# EAGLE library part FT232RQ (library ftdi_ft232rq)
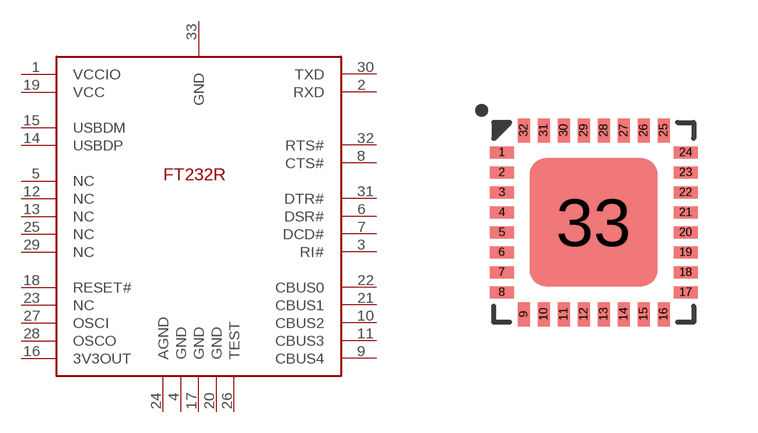
[diagram p0: symbol with the pads of FT232RQ; footprint FT232RQ]

Designator prefix -

## FT232RQ  [FT232RQ]
1  VCCIO  pwr
2  RXD  in
3  RI#  in
4  GND  pwr
5  NC  nc
6  DSR#  in
7  DCD#
8  CTS#  in
9  CBUS4
10  CBUS2
11  CBUS3
12  NC  nc
13  NC  nc
14  USBDP
15  USBDM
16  3V3OUT  out
17  GND  pwr
18  RESET#  in
19  VCC  pwr
20  GND  pwr
21  CBUS1
22  CBUS0
23  NC  nc
24  AGND  pwr
25  NC  nc
26  TEST  in
27  OSCI  in
28  OSCO  out
29  NC  nc
30  TXD  out
31  DTR#  out
32  RTS#  out
33  GND

## Footprint FT232RQ (pad centres in mm)
smd 0.6 x 0.3: 1 -2.3,1.75; 2 -2.3,1.25; 3 -2.3,0.75; 4 -2.3,0.25; 5 -2.3,-0.25; 6 -2.3,-0.75; 7 -2.3,-1.25; 8 -2.3,-1.75; 17 2.3,-1.75; 18 2.3,-1.25; 19 2.3,-0.75; 20 2.3,-0.25; 21 2.3,0.25; 22 2.3,0.75; 23 2.3,1.25; 24 2.3,1.75
smd 0.3 x 0.6: 9 -1.75,-2.3; 10 -1.25,-2.3; 11 -0.75,-2.3; 12 -0.25,-2.3; 13 0.25,-2.3; 14 0.75,-2.3; 15 1.25,-2.3; 16 1.75,-2.3; 25 1.75,2.3; 26 1.25,2.3; 27 0.75,2.3; 28 0.25,2.3; 29 -0.25,2.3; 30 -0.75,2.3; 31 -1.25,2.3; 32 -1.75,2.3
smd 3.2 x 3.2: 33 0,0